# Altium schematic symbol library LD15-23BxxR2-M.SchLib: 1 symbol
Pins are listed as number, name and electrical type; pins without a type are passive.

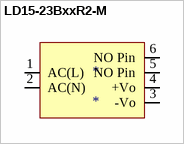
[diagram p0: symbol LD15-23BxxR2-M]

## LD15-23BxxR2-M
designator *
pins: 1 AC(L), 2 AC(N), 3 -Vo, 4 +Vo, 5 NO Pin, 6 NO Pin